# EAGLE library part NBP-SENSORS (library Parts for D-DAQ)
Boost Pressure sensor
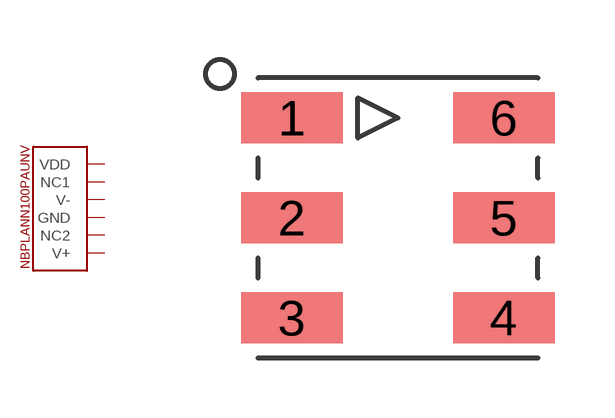
[diagram p8: symbol with the pads of LEADLESS-SMT; footprint LEADLESS-SMT]

Designator prefix U

## NBP-SENSORS  [LEADLESS-SMT]
1  VDD  pwr
2  NC1  nc
3  V-  out
4  GND  pwr
5  NC2  nc
6  V+  out

## Footprint LEADLESS-SMT (pad centres in mm)
smd 2.54 x 1.27: 1 -2.65,2.5; 2 -2.65,0; 3 -2.65,-2.5; 4 2.65,-2.5; 5 2.65,0; 6 2.65,2.5